# Altium footprint library Molex 1053091203.PcbLib: 1 footprints
Each footprint in its own frame and in the unit in brackets; x right, y up, seen from the top. Pads: shape width x height; smd on the part's side, far side on the other; paste and mask are expansions set on the pad; w line width, h text height; cw(c..) or ccw(c..) is an arc to the next point about the centre after c.
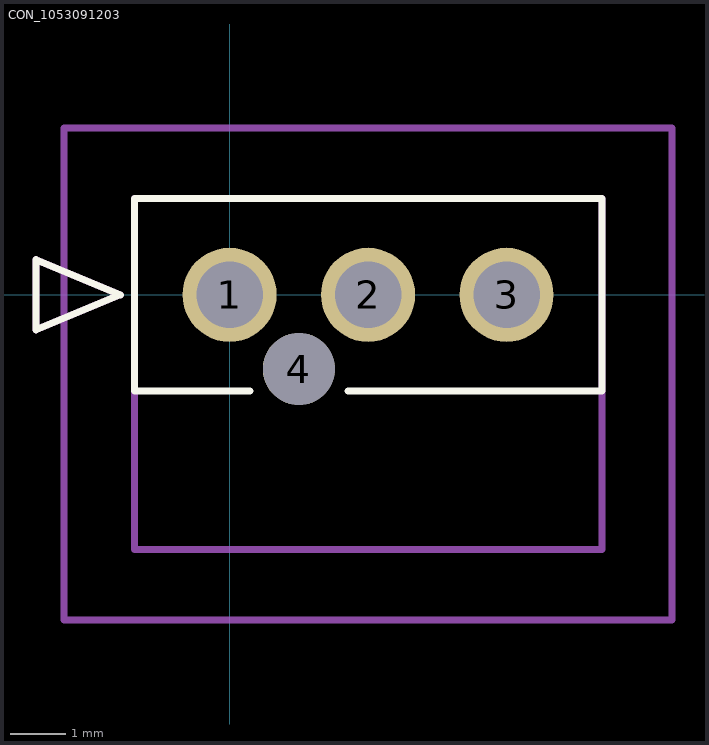
[diagram p0: the footprint, top view; thin cyan lines are the x and y axes]

## CON_1053091203 [mm]
pads (4):
  round 1.7 hole 1.2 mask+0.076: 1(0,0) 2(2.5,0) 3(5,0)
  round 1.3 hole 1.3 unplated mask+0.076: 4(1.25,-1.34)
Top Overlay:
  lines w0.127: 0.366,-1.74 -1.72,-1.74 -1.72,1.74 6.72,1.74 6.72,-1.74 2.134,-1.74 ; -3.498,-0.635 -3.498,0.635 -1.974,0 -3.498,-0.635
Mechanical 13:
  lines w0.127: -3.498,-0.635 -3.498,0.635 -1.974,0 -3.498,-0.635 ; -1.72,-4.6 6.72,-4.6 6.72,1.74 -1.72,1.74 -1.72,-4.6
Mechanical 15:
  lines w0.127: -2.99,-5.87 -2.99,3.01 7.99,3.01 7.99,-5.87 -2.99,-5.87
3D body: height 0.25, standoff 0, extent 0,0 0.254,0.254